# Altium footprint library con-jack.PCBLIB: 4 footprints
Each footprint in its own frame and in the unit in brackets; x right, y up, seen from the top. Pads: shape width x height; smd on the part's side, far side on the other; paste and mask are expansions set on the pad; w line width, h text height; cw(c..) or ccw(c..) is an arc to the next point about the centre after c.
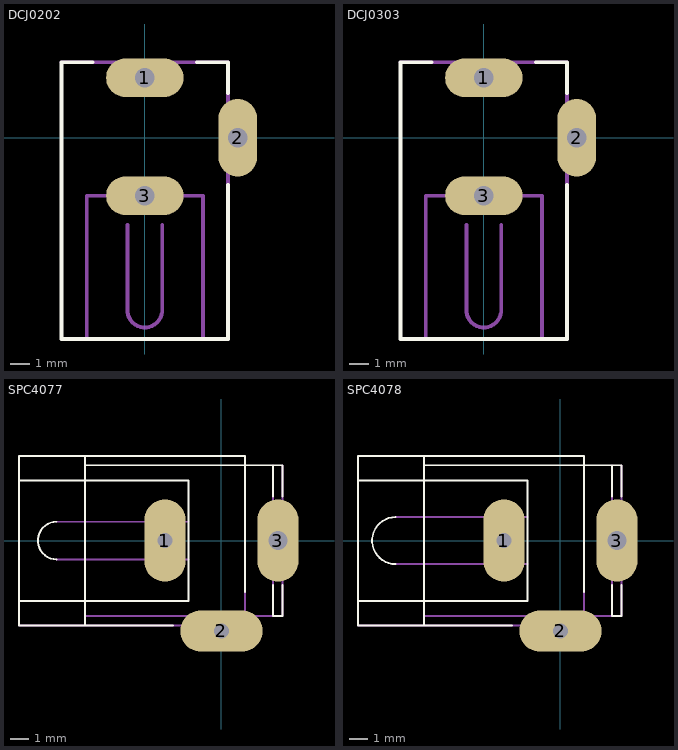
[diagram p0: the footprints below, top view; thin cyan lines are the x and y axes]

## DCJ0202 [mm]
pads (3):
  oval 4x2 hole 1: 1(0,3.1) 3(0,-3)
  oval 2x4 hole 1: 2(4.8,0)
Top Overlay:
  lines w0.203: -2.7,3.9 -4.3,3.9 -4.3,-10.4 4.3,-10.4 4.3,-2.45 ; 2.7,3.9 4.3,3.9 4.3,2.3
Mechanical 11:
  lines w0: -1.65,2.6 1.65,2.6 1.65,3.6 -1.65,3.6 -1.65,2.6 ; -1.4,-3.5 1.4,-3.5 1.4,-2.5 -1.4,-2.5 -1.4,-3.5 ; 4.3,-1.4 4.3,1.4 5.3,1.4 5.3,-1.4 4.3,-1.4
Mechanical 16:
  lines w0.203: -4.3,3.9 4.3,3.9 4.3,-10.4 ; -3,-10.275 -3,-3 3,-3 3,-10.3 ; -0.9,-4.5 -0.9,-9 ccw(c0,-8.894) 0.9,-9 0.9,-4.5

## DCJ0303 [mm]
pads (3):
  oval 4x2 hole 1: 1(0,3.1) 3(0,-3)
  oval 2x4 hole 1: 2(4.8,0)
Top Overlay:
  lines w0.203: -2.7,3.9 -4.3,3.9 -4.3,-10.4 4.3,-10.4 4.3,-2.45 ; 2.7,3.9 4.3,3.9 4.3,2.3
Mechanical 11:
  lines w0: -1.65,2.6 1.65,2.6 1.65,3.6 -1.65,3.6 -1.65,2.6 ; -1.4,-3.5 1.4,-3.5 1.4,-2.5 -1.4,-2.5 -1.4,-3.5 ; 4.3,-1.4 4.3,1.4 5.3,1.4 5.3,-1.4 4.3,-1.4
Mechanical 16:
  lines w0.203: -4.3,3.9 4.3,3.9 4.3,-10.4 ; -3,-10.275 -3,-3 3,-3 3,-10.3 ; -0.9,-4.5 -0.9,-9 ccw(c0,-8.894) 0.9,-9 0.9,-4.5

## SPC4077 [mil]
pads (3):
  oval 86x172 hole 31.5: 1(-118.11,0)
  oval 172x86 hole 31.5: 2(0,-188.98)
  oval 86x172 hole 39.37: 3(118.11,0)
Top Overlay:
  lines w3.94: -344.49,-39.37 cw(c-344.49,0) -344.49,39.37 ; -285.43,-177.17 -285.43,157.48 ; -285.43,177.17 -285.43,157.48 ; -100.79,-177.17 -423.23,-177.17 -423.23,-125.98 ; 49.21,-107.48 49.21,157.48 ; 108.27,-92.52 108.27,-157.48 127.95,-157.48 127.95,-92.52 ; 108.27,92.52 108.27,157.48 ; 127.95,92.52 127.95,157.48 108.27,157.48 ; -423.23,-125.98 -423.23,125.98 ; -423.23,-125.98 -68.9,-125.98 -68.9,-39.37 -68.9,39.37 -68.9,125.98 -423.23,125.98 ; -423.23,125.98 -423.23,177.17 49.21,177.17 49.21,157.48 ; -285.43,157.48 49.21,157.48 ; 49.21,157.48 108.27,157.48
Mechanical 11:
  lines w0: -133.86,-59.06 -102.36,-59.06 -102.36,59.06 -133.86,59.06 -133.86,-59.06 ; -59.06,-204.72 59.06,-204.72 59.06,-173.23 -59.06,-173.23 -59.06,-204.72 ; 98.43,-68.9 137.8,-68.9 137.8,68.9 98.43,68.9 98.43,-68.9
Mechanical 16:
  rectangle: -49.21,-198.82 49.21,-179.13
  rectangle: 108.27,-59.06 127.95,59.06
  rectangle: -122.05,-49.21 -114.17,49.21
  lines w3.94: -423.23,-177.17 49.21,-177.17 49.21,-157.48 ; -344.49,-39.37 -68.9,-39.37 ; -344.49,39.37 -68.9,39.37 ; -285.43,-157.48 49.21,-157.48 ; 49.21,157.48 49.21,-157.48 ; 108.27,157.48 108.27,-157.48 ; 127.95,157.48 127.95,-157.48 108.27,-157.48 ; 49.21,-157.48 108.27,-157.48

## SPC4078 [mil]
pads (3):
  oval 86x172 hole 31.5: 1(-118.11,0)
  oval 172x86 hole 31.5: 2(0,-188.98)
  oval 86x172 hole 39.37: 3(118.11,0)
Top Overlay:
  lines w3.94: -344.49,-49.21 cw(c-344.49,0) -344.49,49.21 ; -285.43,-177.17 -285.43,157.48 ; -285.43,177.17 -285.43,157.48 ; -100.79,-177.17 -423.23,-177.17 -423.23,-125.98 ; 49.21,-107.48 49.21,157.48 ; 108.27,-92.52 108.27,-157.48 127.95,-157.48 127.95,-92.52 ; 108.27,92.52 108.27,157.48 ; 127.95,92.52 127.95,157.48 108.27,157.48 ; -423.23,-125.98 -423.23,125.98 ; -423.23,-125.98 -68.9,-125.98 -68.9,-49.21 -68.9,49.21 -68.9,125.98 -423.23,125.98 ; -423.23,125.98 -423.23,177.17 49.21,177.17 49.21,157.48 ; -285.43,157.48 49.21,157.48 ; 49.21,157.48 108.27,157.48
Mechanical 11:
  lines w0: -133.86,-59.06 -102.36,-59.06 -102.36,59.06 -133.86,59.06 -133.86,-59.06 ; -59.06,-204.72 59.06,-204.72 59.06,-173.23 -59.06,-173.23 -59.06,-204.72 ; 98.43,-68.9 137.8,-68.9 137.8,68.9 98.43,68.9 98.43,-68.9
Mechanical 16:
  rectangle: -49.21,-198.82 49.21,-179.13
  rectangle: 108.27,-59.06 127.95,59.06
  rectangle: -122.05,-49.21 -114.17,49.21
  lines w3.94: -423.23,-177.17 49.21,-177.17 49.21,-157.48 ; -344.49,-49.21 -68.9,-49.21 ; -344.49,49.21 -68.9,49.21 ; -285.43,-157.48 49.21,-157.48 ; 49.21,157.48 49.21,-157.48 ; 108.27,157.48 108.27,-157.48 ; 127.95,157.48 127.95,-157.48 108.27,-157.48 ; 49.21,-157.48 108.27,-157.48